# Altium schematic symbol library I2C.SchLib: 1 symbol
Pins are listed as number, name and electrical type; pins without a type are passive.

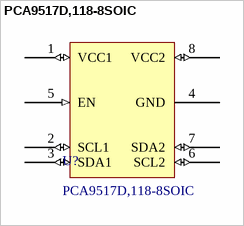
[diagram p0: symbol PCA9517D,118-8SOIC]

## PCA9517D,118-8SOIC
designator U?
IC REDRIVER I2C 1CH 400KHZ 8SOIC; Manufacturer: NXP USA Inc.; Active Read Current - Max: 5 mA; Number of Channels: 2; Capacitance - Input: 6 pF; Supply Voltage - Max: 5.5 V; Supply Voltage - Min: 2.7 V; Applications: I2C; Data Rate (Max): 400 kHz; Supplier 1 URL: https://www.mouser.com/ProductDetail/NXP-Semiconductors/PCA9517D118?qs=LOCUfHb8d9vRhua6vNQMbg%3D%3D; Supplier 2 URL: https://www.digikey.com/en/products/detail/nxp-usa-inc/PCA9517D-118/789917; Supplier 3 URL: N/A; Value: PCA9517D,118-8SOIC; Supplier 1: Mouser; Supplier 1 Part Number: 771-PCA9517D-T; Supplier 2: Digi-Key; Supplier 2 Part Number: 568-1828-2-ND; Supplier 3: thegioiic; Supplier 3 Part Number: N/A; Manufacturer Part Number: PCA9517D,118; Mount: SMD/SMT; Operating Temperature Max: + 85 C; Operating Temperature Min: - 40 C; Package / Case: 8SOIC; Packaging: Tape and Reel; ComponentLink1Description: Datasheet; ComponentLink1URL: https://www.nxp.com/docs/en/data-sheet/PCA9517.pdf
footprint PCA9517D,118-8SOIC (SOIC, 8-Leads, Body 4.90x3.90mm, Pitch 1.27mm, IPC Medium Density)
pins: 1 VCC1 (io), 2 SCL1 (io), 3 SDA1 (io), 4 GND (power), 5 EN (in), 6 SCL2 (io), 7 SDA2 (io), 8 VCC2 (io)